# EAGLE library part FLASH-SPI (library Deegou_IC)
SERIAL MULTI I/O FLASH MEMORY
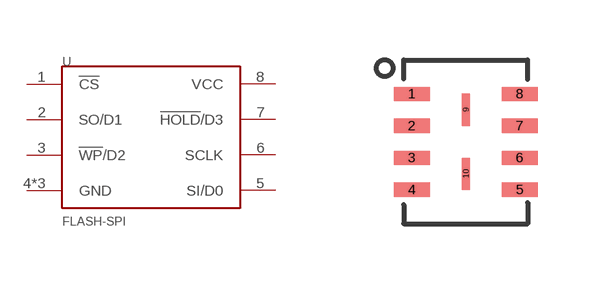
[diagram p129: symbol with the pads of USON-8L; footprint USON-8L]

Designator prefix U

## FLASH-SPIUSON-8L  [USON-8L]
1  !CS
2  SO/D1
3  !WP!/D2
4  GND
5  SI/D0
6  SCLK
7  !HOLD!/D3
8  VCC
9  GND
10  GND

## Footprint USON-8L (pad centres in mm)
USON-8L, 4x3x0.60MM, LEAD PITCH 0.8MM
smd 0.9 x 0.35: 1 -1.35,1.2; 2 -1.35,0.4; 3 -1.35,-0.4; 4 -1.35,-1.2; 5 1.35,-1.2; 6 1.35,-0.4; 7 1.35,0.4; 8 1.35,1.2
smd 0.2 x 0.8: 9 0,0.8; 10 0,-0.8